# Altium footprint library NIXIE_N.PcbLib: 69 footprints (part 2 of 5)
Each footprint in its own frame and in the unit in brackets; x right, y up, seen from the top. Pads: shape width x height; smd on the part's side, far side on the other; paste and mask are expansions set on the pad; w line width, h text height; cw(c..) or ccw(c..) is an arc to the next point about the centre after c.
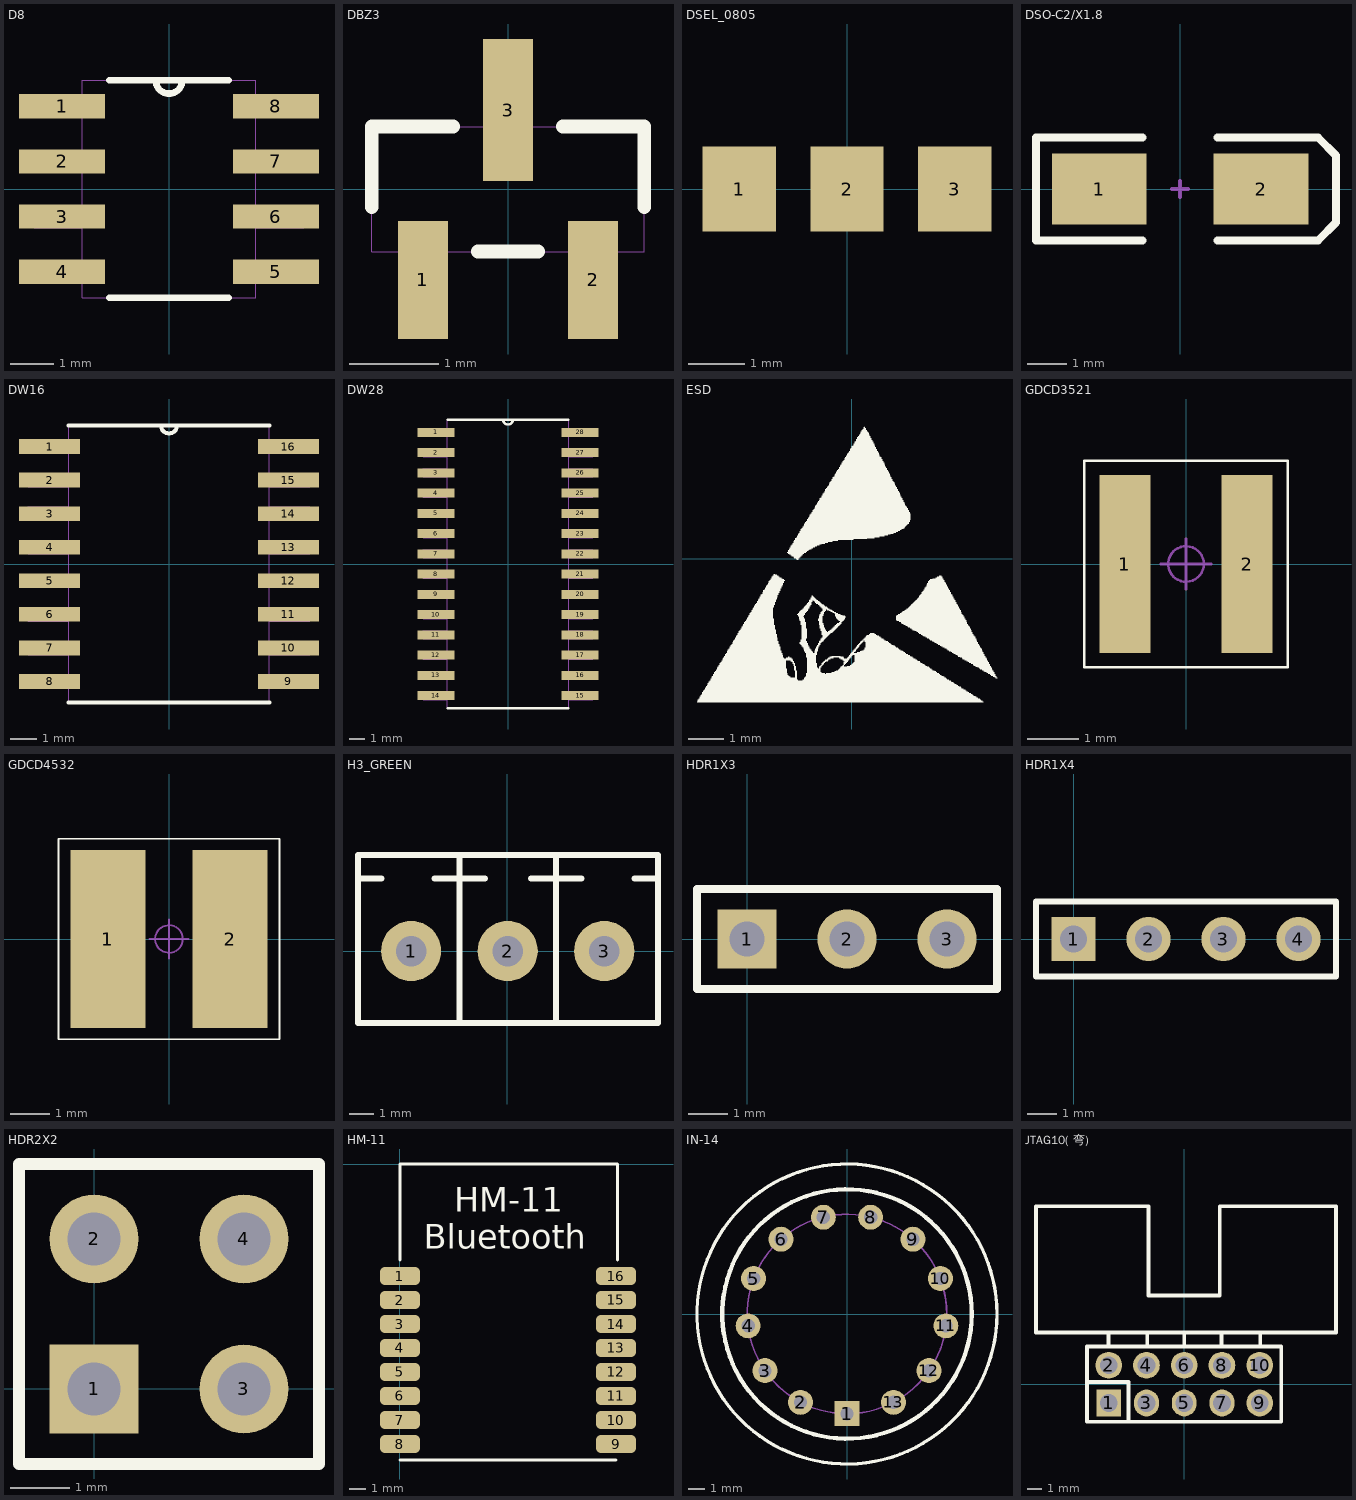
[diagram p1: the footprints below, top view; thin cyan lines are the x and y axes]

## D8 [mil]
pads (8):
  rect 78x22 smd: 1(-97,75) 2(-97,25) 3(-97,-25) 4(-97,-75) 5(97,-75) 6(97,-25) 7(97,25) 8(97,75)
Top Overlay:
  lines w6: -54.08,-98.5 54.08,-98.5 ; -54.08,98.5 54.08,98.5 ; -12,98.5 ccw(c0,98.5) 12,98.5
Mechanical 1:
  lines w0: -12,98.5 ccw(c0,98.5) 12,98.5 ; -122,-85 -122,-65 -78.5,-65 -78.5,-85 -122,-85 ; -122,-35 -122,-15 -78.5,-15 -78.5,-35 -122,-35 ; -122,15 -122,35 -78.5,35 -78.5,15 -122,15 ; -122,65 -122,85 -78.5,85 -78.5,65 -122,65 ; -78.5,-98.5 78.5,-98.5 78.5,98.5 -78.5,98.5 -78.5,-98.5 ; 78.5,-85 78.5,-65 122,-65 122,-85 78.5,-85 ; 78.5,-35 78.5,-15 122,-15 122,-35 78.5,-35 ; 78.5,15 78.5,35 122,35 122,15 78.5,15 ; 78.5,65 78.5,85 122,85 122,65 78.5,65

## DBZ3 [mil]
pads (3):
  rect 22x52 smd: 1(-37.4,-40) 2(37.4,-40)
  rect 22x62.5 smd: 3(0,34.75)
Top Overlay:
  lines w6: -60,-7.91 -60,27.5 -24.1,27.5 ; -13.3,-27.5 13.3,-27.5 ; 24.1,27.5 60,27.5 60,-7.91
Mechanical 1:
  lines w0: -60,-27.5 -60,27.5 60,27.5 60,-27.5 -60,-27.5 ; -47.4,-52 -27.4,-52 -27.4,-27.5 -47.4,-27.5 -47.4,-52 ; -10,27.5 -10,52 10,52 10,27.5 -10,27.5 ; 27.4,-52 47.4,-52 47.4,-27.5 27.4,-27.5 27.4,-52

## DSEL_0805 [mm]
height 11.5
pads (3):
  rect 1.3x1.5 smd: 1(-1.905,0) 2(0,0) 3(1.905,0)

## DSO-C2/X1.8 [mm] "DO-214-AC/SMA; 2 C-Bend Leads; Body 5 x 2.7 mm, inc. leads (LxW)"
height 2.44
pads (2):
  rect 2.4x1.8 smd: 1(-2.05,0) 2(2.05,0)
Top Overlay:
  lines w0.2: -0.95,-1.3 -3.65,-1.3 -3.65,1.3 -0.95,1.3 ; 0.95,-1.3 3.5,-1.3 3.95,-0.85 3.95,0.85 3.5,1.3 0.95,1.3
Mechanical 1:
  lines w0.1: -0.2,0 0.2,0 ; 0,-0.2 0,0.2

## DW16 [mil]
pads (16):
  rect 91x22 smd: 1(-178,175) 2(-178,125) 3(-178,75) 4(-178,25) 5(-178,-25) 6(-178,-75) 7(-178,-125) 8(-178,-175) 9(178,-175) 10(178,-125) 11(178,-75) 12(178,-25) 13(178,25) 14(178,75) 15(178,125) 16(178,175)
Top Overlay:
  lines w6: -149.5,-206.5 149.5,-206.5 ; -149.5,206.5 149.5,206.5 ; -12,206.5 ccw(c0,206.5) 12,206.5
Mechanical 1:
  lines w0: -12,206.5 ccw(c0,206.5) 12,206.5 ; -209.5,-185 -149.5,-185 -149.5,-165 -209.5,-165 -209.5,-185 ; -209.5,-135 -149.5,-135 -149.5,-115 -209.5,-115 -209.5,-135 ; -209.5,-85 -149.5,-85 -149.5,-65 -209.5,-65 -209.5,-85 ; -209.5,-35 -149.5,-35 -149.5,-15 -209.5,-15 -209.5,-35 ; -209.5,15 -149.5,15 -149.5,35 -209.5,35 -209.5,15 ; -209.5,65 -149.5,65 -149.5,85 -209.5,85 -209.5,65 ; -209.5,115 -149.5,115 -149.5,135 -209.5,135 -209.5,115 ; -209.5,165 -149.5,165 -149.5,185 -209.5,185 -209.5,165 ; -149.5,-206.5 -149.5,206.5 149.5,206.5 149.5,-206.5 -149.5,-206.5 ; 149.5,-185 209.5,-185 209.5,-165 149.5,-165 149.5,-185 ; 149.5,-135 209.5,-135 209.5,-115 149.5,-115 149.5,-135 ; 149.5,-85 209.5,-85 209.5,-65 149.5,-65 149.5,-85 ; 149.5,-35 209.5,-35 209.5,-15 149.5,-15 149.5,-35 ; 149.5,15 209.5,15 209.5,35 149.5,35 149.5,15 ; 149.5,65 209.5,65 209.5,85 149.5,85 149.5,65 ; 149.5,115 209.5,115 209.5,135 149.5,135 149.5,115 ; 149.5,165 209.5,165 209.5,185 149.5,185 149.5,165

## DW28 [mil]
pads (28):
  rect 91x22 smd: 1(-178,325) 2(-178,275) 3(-178,225) 4(-178,175) 5(-178,125) 6(-178,75) 7(-178,25) 8(-178,-25) 9(-178,-75) 10(-178,-125) 11(-178,-175) 12(-178,-225) 13(-178,-275) 14(-178,-325) 15(178,-325) 16(178,-275) 17(178,-225) 18(178,-175) 19(178,-125) 20(178,-75) 21(178,-25) 22(178,25) 23(178,75) 24(178,125) 25(178,175) 26(178,225) 27(178,275) 28(178,325)
Top Overlay:
  lines w6: -149.5,-356.5 149.5,-356.5 ; -149.5,356.5 149.5,356.5 ; -12,356.5 ccw(c0,356.5) 12,356.5
Mechanical 1:
  lines w0: -12,356.5 ccw(c0,356.5) 12,356.5 ; -209.5,-335 -209.5,-315 -149.5,-315 -149.5,-335 -209.5,-335 ; -209.5,-285 -209.5,-265 -149.5,-265 -149.5,-285 -209.5,-285 ; -209.5,-235 -209.5,-215 -149.5,-215 -149.5,-235 -209.5,-235 ; -209.5,-185 -209.5,-165 -149.5,-165 -149.5,-185 -209.5,-185 ; -209.5,-135 -209.5,-115 -149.5,-115 -149.5,-135 -209.5,-135 ; -209.5,-85 -209.5,-65 -149.5,-65 -149.5,-85 -209.5,-85 ; -209.5,-35 -209.5,-15 -149.5,-15 -149.5,-35 -209.5,-35 ; -209.5,15 -209.5,35 -149.5,35 -149.5,15 -209.5,15 ; -209.5,65 -209.5,85 -149.5,85 -149.5,65 -209.5,65 ; -209.5,115 -209.5,135 -149.5,135 -149.5,115 -209.5,115 ; -209.5,165 -209.5,185 -149.5,185 -149.5,165 -209.5,165 ; -209.5,215 -209.5,235 -149.5,235 -149.5,215 -209.5,215 ; -209.5,265 -209.5,285 -149.5,285 -149.5,265 -209.5,265 ; -209.5,315 -209.5,335 -149.5,335 -149.5,315 -209.5,315 ; -149.5,-356.5 149.5,-356.5 149.5,356.5 -149.5,356.5 -149.5,-356.5 ; 149.5,-335 149.5,-315 209.5,-315 209.5,-335 149.5,-335 ; 149.5,-285 149.5,-265 209.5,-265 209.5,-285 149.5,-285 ; 149.5,-235 149.5,-215 209.5,-215 209.5,-235 149.5,-235 ; 149.5,-185 149.5,-165 209.5,-165 209.5,-185 149.5,-185 ; 149.5,-135 149.5,-115 209.5,-115 209.5,-135 149.5,-135 ; 149.5,-85 149.5,-65 209.5,-65 209.5,-85 149.5,-85 ; 149.5,-35 149.5,-15 209.5,-15 209.5,-35 149.5,-35 ; 149.5,15 149.5,35 209.5,35 209.5,15 149.5,15 ; 149.5,65 149.5,85 209.5,85 209.5,65 149.5,65 ; 149.5,115 149.5,135 209.5,135 209.5,115 149.5,115 ; 149.5,165 149.5,185 209.5,185 209.5,165 149.5,165 ; 149.5,215 149.5,235 209.5,235 209.5,215 149.5,215 ; 149.5,265 149.5,285 209.5,285 209.5,265 149.5,265 ; 149.5,315 149.5,335 209.5,335 209.5,315 149.5,315

## ESD [mm]
Top Overlay:
  drawing of 685 lines, arcs and shapes, not listed

## GDCD3521 [mm]
pads (2):
  rect 1x3.5 smd: 1(-1.2,0) 2(1.2,0)
Top Overlay:
  lines w0.05: -2,-2.028 -2,2.028 2,2.028 2,-2.028 -2,-2.028
Mechanical 16:
  circle w0.05: c0,0 r0.35
  lines w0.05: -0.5,0 0.5,0 ; 0,-0.5 0,0.5

## GDCD4532 [mm]
pads (2):
  rect 1.9x4.5 smd: 1(-1.55,0) 2(1.55,0)
Top Overlay:
  lines w0.05: -2.794,-2.54 -2.794,2.54 2.794,2.54 2.794,-2.54 -2.794,-2.54
Mechanical 16:
  circle w0.05: c0,0 r0.35
  lines w0.05: -0.5,0 0.5,0 ; 0,-0.5 0,0.5

## H3_GREEN [mm]
pads (3):
  round 2.5 hole 1.27: 1(-3.988,0) 2(0.025,0) 3(4.039,0)
Top Overlay:
  lines w0.254: -6.198,3.02 -5.232,3.02 ; -3.023,3.02 -0.914,3.02 ; -1.977,-3 -1.977,4 ; 0.991,3.023 3.099,3.023 ; 2.032,-3 2.032,4 ; 5.309,3.02 6.274,3.02 ; -6.198,-3 -6.198,4 6.274,4 6.274,-3 -6.198,-3

## HDR1X3 [mm] "Connector; Header; 3 Position"
height 1.2
pads (3):
  rect 1.5x1.5 hole 0.9: 1(0,0)
  round 1.5 hole 0.9: 2(2.54,0) 3(5.08,0)
Top Overlay:
  lines w0.2: -1.27,-1.27 -1.27,1.27 6.35,1.27 6.35,-1.27 -1.27,-1.27

## HDR1X4 [mm] "Connector; Header; 4 Position"
pads (4):
  rect 1.5x1.5 hole 0.9: 1(0,0)
  round 1.5 hole 0.9: 2(2.54,0) 3(5.08,0) 4(7.62,0)
Top Overlay:
  lines w0.2: -1.27,-1.27 -1.27,1.27 8.89,1.27 8.89,-1.27 -1.27,-1.27

## HDR2X2 [mm] "Connector; Header; 2x2 Position"
pads (4):
  rect 1.5x1.5 hole 0.9: 1(0,0)
  round 1.5 hole 0.9: 2(0,2.54) 3(2.54,0) 4(2.54,2.54)
Top Overlay:
  lines w0.2: -1.27,-1.27 3.81,-1.27 3.81,3.81 -1.27,3.81 -1.27,-1.27

## HM-11 [mm]
height 1
pads (16):
  rrect50% 2.5x1.1 smd: 1(0,-7) 2(0,-8.5) 3(0,-10) 4(0,-11.5) 5(0,-13) 6(0,-14.5) 7(0,-16) 8(0,-17.5) 9(13.5,-17.5) 10(13.5,-16) 11(13.5,-14.5) 12(13.5,-13) 13(13.5,-11.5) 14(13.5,-10) 15(13.5,-8.5) 16(13.5,-7)
Top Overlay:
  lines w0.2: 0,-18.5 13.5,-18.5 ; 0,-6 0,0 13.6,0 13.6,-6
  text "Bluetooth" at 1.5,-5.3 h1.52
  text "HM-11" at 3.4,-3 h1.52

## IN-14 [mm]
pads (13):
  rect 1.5x1.5 hole 0.8: 1(0,-5.994)
  round 1.5 hole 0.8: 2(-2.794,-5.309) 3(-4.928,-3.404) 4(-5.944,-0.711) 5(-5.613,2.134) 6(-3.962,4.496) 7(-1.422,5.817) 8(1.422,5.817) 9(3.962,4.496) 10(5.613,2.134) 11(5.944,-0.711) 12(4.928,-3.404) 13(2.794,-5.309)
Top Overlay:
  circle w0.2: c0,0 r9.017
  circle w0.254: c0,0 r7.497
Mechanical 1:
  circle w0.1: c0,0 r5.994

## JTAG10( 弯) [mm]
pads (10):
  rect 1.673x1.8 hole 1.2: 1(-5.08,-1.27)
  round 1.8 hole 1.2: 2(-5.08,1.27) 4(-2.54,1.27) 6(0,1.27) 8(2.54,1.27) 9(5.08,-1.27) 10(5.08,1.27)
  oval 1.673x1.8 hole 1.2: 3(-2.54,-1.27) 5(0,-1.27) 7(2.54,-1.27)
Top Overlay:
  lines w0.25: -5.09,2.54 -5.09,3.48 ; -2.49,2.54 -2.49,3.48 ; 0.01,2.54 0.01,3.48 ; 2.51,2.54 2.51,3.48 ; 5.11,2.54 5.11,3.48 ; -9.977,3.48 -9.977,11.98 -2.4,11.98 -2.4,5.96 2.4,5.96 2.4,11.98 10.216,11.98 10.216,3.48 -9.977,3.48
  lines w0.254: -6.35,0.149 -3.754,0.149 -3.754,-2.518 ; -6.548,-2.54 -6.548,2.54 6.533,2.54 6.533,-2.54 -6.548,-2.54